# Altium footprint library PcbLib.PcbLib: 30 footprints (part 1 of 2)
Each footprint in its own frame and in the unit in brackets; x right, y up, seen from the top. Pads: shape width x height; smd on the part's side, far side on the other; paste and mask are expansions set on the pad; w line width, h text height; cw(c..) or ccw(c..) is an arc to the next point about the centre after c.
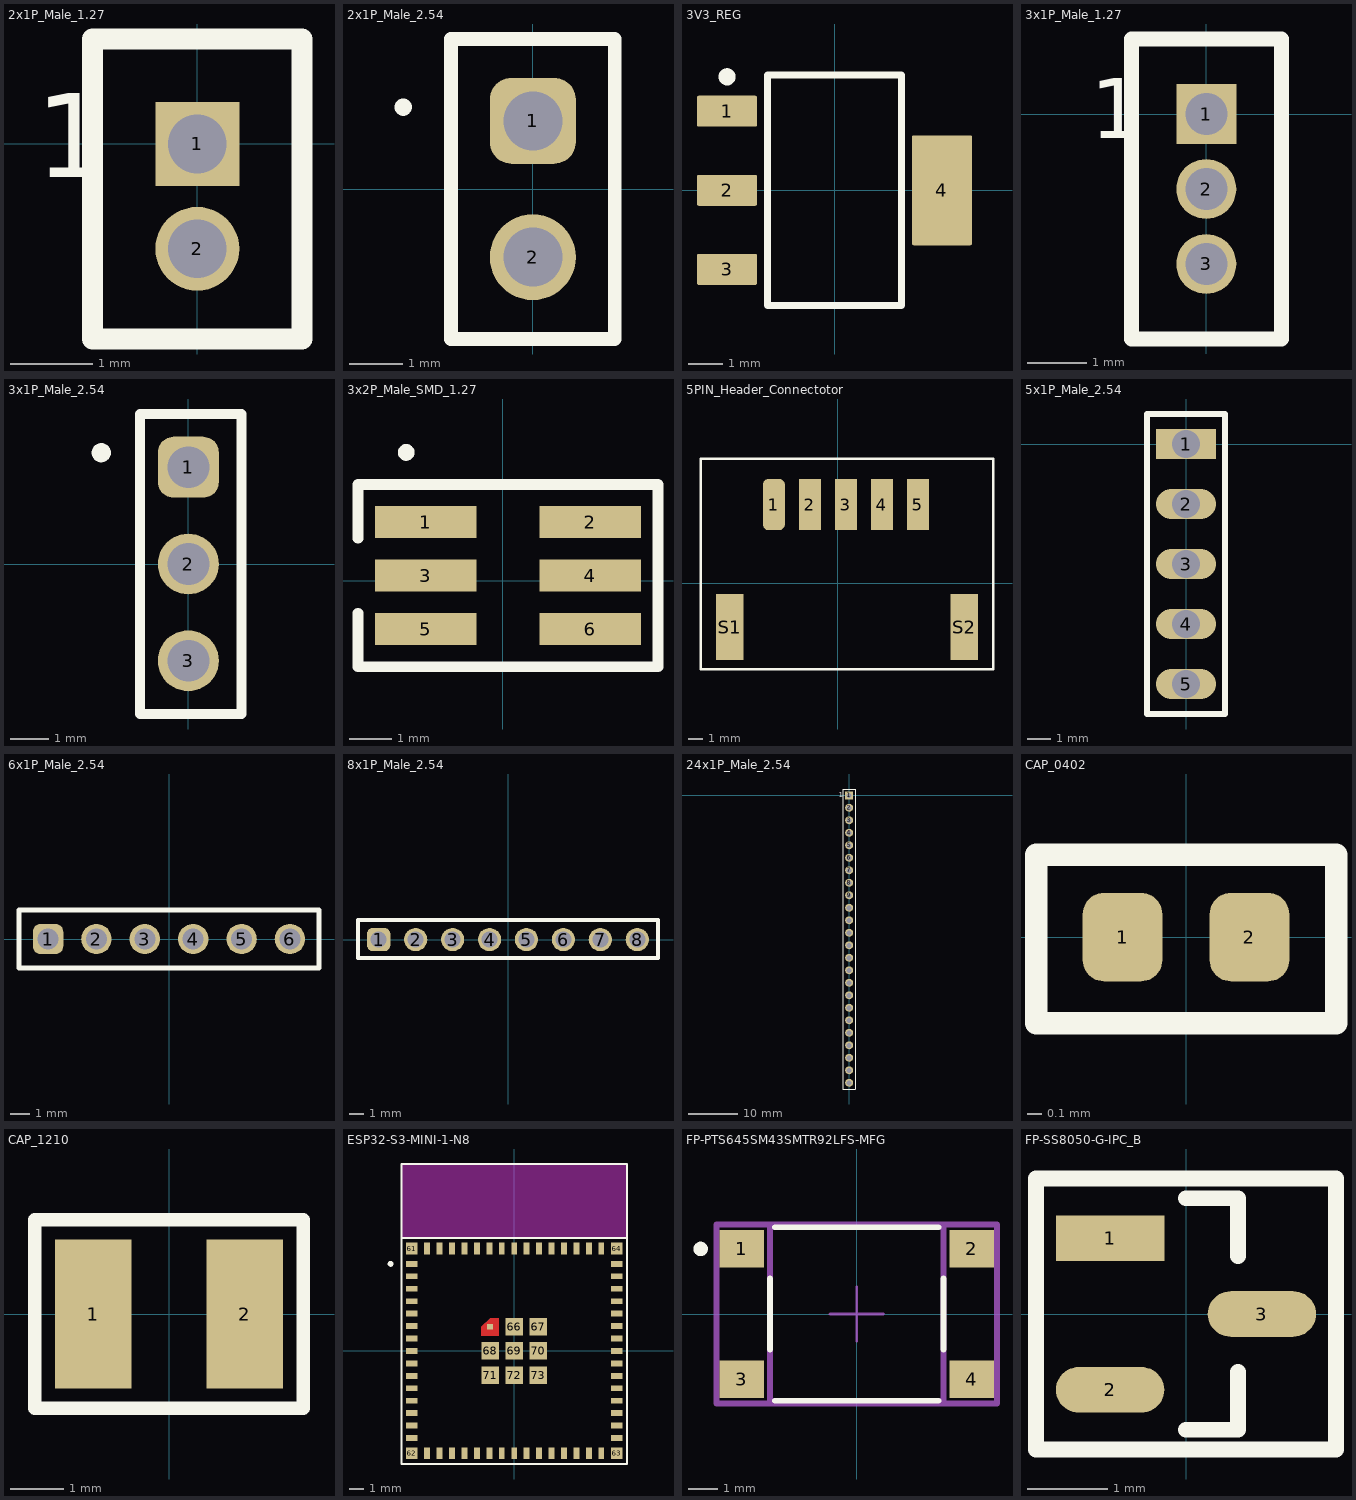
[diagram p0: the footprints below, top view; thin cyan lines are the x and y axes]

## 2x1P_Male_1.27 [mil]
pads (2):
  rect 40x40 hole 28: 1(0,0)
  round 40 hole 28: 2(0,-50)
Top Overlay:
  lines w10: -50,-93 50,-93 50,50 -50,50 -50,-93
  text "1" at -77.02,-16.02 h40
3D body "SAMTEC-FTS-102-01-X-S.step": height 154.5, standoff -89.5, extent -44,-75 41,25

## 2x1P_Male_2.54 [mm] "Pin Header, pitch 2.54 mm, THT, Vertical, single row, 2p"
height 8.54
pads (2):
  rrect50% 1.6x1.6 hole 1.1: 1(0,1.27)
  round 1.6 hole 1.1: 2(0,-1.27)
Top Overlay:
  circle w0.25: c-2.413,1.524 r0.035
  lines w0.254: -1.524,-2.794 -1.524,-1.166 -1.524,1.166 -1.524,2.794 1.524,2.794 1.524,-2.794 -1.524,-2.794
3D body "61300211121.stp": height 8.57, standoff -2.97, extent -1.27,-2.54 1.27,2.54

## 3V3_REG [mm] "SOT223, 4-Leads, Body 6.7x3.7mm, Pitch 2.3mm, IPC Medium Density"
height 1.8
pads (4):
  rrect11% 1.75x0.9 smd: 1(-3.125,2.3) 2(-3.125,0) 3(-3.125,-2.3)
  rrect6% 1.75x3.2 smd: 4(3.125,0)
Top Overlay:
  circle w0.25: c-3.125,3.3 r0.125
  lines w0.2: -1.95,-3.35 -1.95,3.35 1.95,3.35 1.95,-3.35 -1.95,-3.35
Top Assembly:
  text ".Designator" at -1.651,-0.254 h0.8
3D body "SOT-223.stp": height 1.62, standoff -0.03, extent -3.5,-3.25 3.5,3.25

## 3x1P_Male_1.27 [mil]
pads (3):
  rect 40x40 hole 28: 1(0,0)
  round 40 hole 28: 2(0,-50) 3(0,-100)
Top Overlay:
  lines w10: -50,-150 -50,50 50,50 50,-150 -50,-150
  text "1" at -77.02,-16.02 h40
3D body "SAMTEC-FTS-103-01-X-S.step": height 154, standoff -90, extent -43,-123 42,27

## 3x1P_Male_2.54 [mm] "Pin Header, pitch 2.54 mm, THT, Vertical, single row, 3p"
height 8.54
pads (3):
  rrect50% 1.6x1.6 hole 1.1: 1(0,2.54)
  round 1.6 hole 1.1: 2(0,0) 3(0,-2.54)
Top Overlay:
  circle w0.25: c-2.286,2.921 r0.127
  lines w0.254: -1.27,-3.937 -1.27,3.937 1.397,3.937 1.397,-3.937 -1.27,-3.937
3D body "61300311121.stp": height 8.57, standoff -2.97, extent -1.27,-3.81 1.27,3.81

## 3x2P_Male_SMD_1.27 [mm]
pads (6):
  rect 2.4x0.76 smd: 1(-1.823,1.397) 2(2.077,1.397) 3(-1.823,0.127) 4(2.077,0.127) 5(-1.823,-1.143) 6(2.077,-1.143)
Top Overlay:
  circle w0.2: c-2.286,3.048 r0.1
  lines w0.254: -3.429,-0.762 -3.429,-2.032 3.683,-2.032 3.683,2.286 -3.429,2.286 -3.429,1.016
3D body "step_temp.STEP": height 4.55, standoff 0, extent -2.623,-1.778 2.877,2.032

## 5PIN_Header_Connectotor [mil]
pads (7):
  rrect50% 60x140 smd: 1(-175,215)
  rect 60x140 smd: 2(-76.57,215) 3(21.85,215) 4(120.28,215) 5(218.7,215)
  rect 75.06x180 smd: S1(-295,-120)
  rect 75x180 smd: S2(345,-120)
Top Overlay:
  lines w6: -375,-235 -175,-235 225,-235 425,-235 425,340 -375,340 -375,-235
3D body "1814948.step": height 197.35, standoff 0.5, extent -331.3,-160 381.3,214.02

## 5x1P_Male_2.54 [mm]
pads (5):
  rect 2.54x1.27 hole 1.2: 1(0,0)
  oval 2.54x1.27 hole 1.2: 2(0,-2.54) 3(0,-5.08) 4(0,-7.62) 5(0,-10.16)
Top Overlay:
  lines w0.254: -1.651,-11.43 -1.27,-11.43 1.27,-11.43 1.651,-11.43 1.651,1.27 0,1.27 -1.651,1.27 -1.651,-11.43
3D body "61300511121_Download_STP_61300511121_rev1.stp": height 8.55, standoff -2.99, extent -1.27,-11.43 1.27,1.27

## 6x1P_Male_2.54 [mm] "Pin Header, pitch 2.54 mm, THT, Vertical, single row, 6p"
height 8.54
pads (6):
  rrect50% 1.6x1.6 hole 1.1: 1(-6.35,0)
  round 1.6 hole 1.1: 2(-3.81,0) 3(-1.27,0) 4(1.27,0) 5(3.81,0) 6(6.35,0)
Top Overlay:
  lines w0.254: -7.874,-1.524 7.874,-1.524 7.874,1.524 -7.874,1.524 -7.874,-1.524
3D body "61300611121.stp": height 8.57, standoff -2.97, extent -7.62,-1.27 7.62,1.27

## 8x1P_Male_2.54 [mm] "Pin Header, pitch 2.54 mm, THT, Vertical, single row, 8p"
height 8.54
pads (8):
  rrect50% 1.6x1.6 hole 1.1: 1(-8.89,0)
  round 1.6 hole 1.1: 2(-6.35,0) 3(-3.81,0) 4(-1.27,0) 5(1.27,0) 6(3.81,0) 7(6.35,0) 8(8.89,0)
Top Overlay:
  lines w0.254: -10.31,-1.27 10.31,-1.27 10.31,1.345 -10.31,1.345 -10.31,-1.27
3D body "61300811121.stp": height 8.57, standoff -2.97, extent -10.16,-1.27 10.16,1.27

## 24x1P_Male_2.54 [mil]
pads (24):
  rect 64x64 hole 40: 1(0,0)
  round 64 hole 40: 2(0,-100) 3(0,-200) 4(0,-300) 5(0,-400) 6(0,-500) 7(0,-600) 8(0,-700) 9(0,-800) 10(0,-900) 11(0,-1000) 12(0,-1100) 13(0,-1200) 14(0,-1300) 15(0,-1400) 16(0,-1500) 17(0,-1600) 18(0,-1700) 19(0,-1800) 20(0,-1900) 21(0,-2000) 22(0,-2100) 23(0,-2200) 24(0,-2300)
Top Overlay:
  lines w10: -50,-2350 -50,50 -25,50 25,50 50,50 50,-2350 -50,-2350
  text "1" at -84,-14 h40
3D body "pinhead24_022284245.stp": height 377.5, standoff -127.5, extent -49,-2350 49,50

## CAP_0402 [mm]
pads (2):
  rrect53% 0.54x0.6 smd: 1(-0.43,0) 2(0.43,0)
Top Overlay:
  lines w0.152: -1.016,-0.584 1.016,-0.584 1.016,0.559 -1.016,0.559 -1.016,-0.584
3D body "CL05A105KA5NQNC.STEP": height 0.5, standoff 0, extent -0.5,-0.279 0.5,0.271

## CAP_1210 [mm]
pads (2):
  rect 1.45x2.81 smd: 1(-1.43,0) 2(1.43,0)
Top Overlay:
  lines w0.254: -2.54,-1.778 -2.54,1.778 2.54,1.778 2.54,-1.778 -2.54,-1.778
3D body "1210_cap_CL32B225KCJSNNE.step": height 2.49, standoff -0.01, extent -1.6,-1.397 1.6,1.403

## ESP32-S3-MINI-1-N8 [mm]
height 2.55
pads (73):
  rect 0.8x0.4 smd: 1(-7,5.95) 2(-7,5.1) 3(-7,4.25) 4(-7,3.4) 5(-7,2.55) 6(-7,1.7) 7(-7,0.85) 8(-7,0) 9(-7,-0.85) 10(-7,-1.7) 11(-7,-2.55) 12(-7,-3.4) 13(-7,-4.25) 14(-7,-5.1) 15(-7,-5.95) 31(7,-5.95) 32(7,-5.1) 33(7,-4.25) 34(7,-3.4) 35(7,-2.55) 36(7,-1.7) 37(7,-0.85) 38(7,0) 39(7,0.85) 40(7,1.7) 41(7,2.55) 42(7,3.4) 43(7,4.25) 44(7,5.1) 45(7,5.95)
  rect 0.4x0.8 smd: 16(-5.95,-7) 17(-5.1,-7) 18(-4.25,-7) 19(-3.4,-7) 20(-2.55,-7) 21(-1.7,-7) 22(-0.85,-7) 23(0,-7) 24(0.85,-7) 25(1.7,-7) 26(2.55,-7) 27(3.4,-7) 28(4.25,-7) 29(5.1,-7) 30(5.95,-7) 46(5.95,7) 47(5.1,7) 48(4.25,7) 49(3.4,7) 50(2.55,7) 51(1.7,7) 52(0.85,7) 53(0,7) 54(-0.85,7) 55(-1.7,7) 56(-2.55,7) 57(-3.4,7) 58(-4.25,7) 59(-5.1,7) 60(-5.95,7)
  rect 0.8x0.8 smd: 61(-7,7) 62(-7,-7) 63(7,-7) 64(7,7)
  rect 0.4x0.4 smd paste-1 mask+0: 65(-1.65,1.65)
  rect 1.2x1.2 smd: 66(0,1.65) 67(1.65,1.65) 68(-1.65,0) 69(0,0) 70(1.65,0) 71(-1.65,-1.65) 72(0,-1.65) 73(1.65,-1.65)
Top Layer:
  region: -1.05,1.05 -2.25,1.05 -2.25,1.65 -1.65,2.25 -1.05,2.25
Top Overlay:
  circle w0.2: c-8.45,5.95 r0.1
  circle w0.2: c-8.45,5.95 r0.1
  lines w0.127: -7.7,-7.725 -7.7,7.725 ; -7.7,-7.725 7.7,-7.725 ; -7.7,-7.725 7.7,-7.725 ; -7.7,7.725 7.7,7.725 ; -7.7,7.725 -7.7,12.775 ; -7.7,7.725 -7.7,12.775 ; -7.7,12.775 7.7,12.775 ; -7.7,12.775 7.7,12.775 ; 7.7,-7.725 7.7,7.725 ; 7.7,7.725 7.7,12.775 ; 7.7,7.725 7.7,12.775
Top Paste:
  region: -1.05,1.05 -2.25,1.05 -2.25,1.65 -1.65,2.25 -1.05,2.25
Top Solder:
  region: -0.95,0.95 -2.35,0.95 -2.35,1.7 -1.7,2.35 -0.95,2.35
Keep-Out Layer:
  region: 7.7,7.725 -7.7,7.725 -7.7,12.775 7.7,12.775
  region: 7.7,7.725 -7.7,7.725 -7.7,12.775 7.7,12.775
3D body "step_temp.STEP": height 2.55, standoff 0, extent -7.7,-7.725 7.7,12.775

## FP-PTS645SM43SMTR92LFS-MFG [mm]
pads (4):
  rect 1.55x1.3 smd paste+0 mask+0: 1(-3.975,2.25) 2(3.975,2.25) 3(-3.975,-2.25) 4(3.975,-2.25)
Top Overlay:
  circle w0.25: c-5.4,2.25 r0.125
  lines w0.2: -3,-1.225 -3,1.225 ; -2.825,-3 2.825,-3 ; -2.825,3 2.825,3 ; 3,-1.225 3,1.225
Top 3D Body:
  lines w0.2: -3,-3 3,-3 3,3 -3,3 -3,-3
Top Courtyard:
  lines w0.2: -4.85,-3.1 4.85,-3.1 4.85,3.1 -4.85,3.1 -4.85,-3.1
Top Assembly:
  lines w0.2: -4.85,-3.1 4.85,-3.1 4.85,3.1 -4.85,3.1 -4.85,-3.1
  text ".Designator" at 0,0.187 h1
Top Component Center:
  lines w0.1: -0.93,0 0.93,0 ; 0,-0.93 0,0.93
3D body "User Library-PTS645SL43SMTR92-LFS.STEP": height 4.3, standoff 0, extent -4.5,-3 4.5,3

## FP-SS8050-G-IPC_B [mm]
pads (3):
  rect 1.357x0.572 smd paste+0 mask+0: 1(-0.951,0.95)
  rrect100% 1.357x0.572 smd paste+0 mask+0: 2(-0.951,-0.95) 3(0.951,0)
Top Overlay:
  lines w0.2: 0,-1.45 0.65,-1.45 0.65,-0.725 ; 0,1.45 0.65,1.45 0.65,0.725 ; -1.879,-1.7 1.879,-1.7 1.879,1.7 -1.879,1.7 -1.879,-1.7
3D body "Trans_Comchip_SS8050-G_eec.STEP": height 0.25, standoff 0, extent -1.879,-1.7 1.879,1.7